# Altium schematic symbol library KP234.SchLib: 1 symbol
Pins are listed as number, name and electrical type; pins without a type are passive.

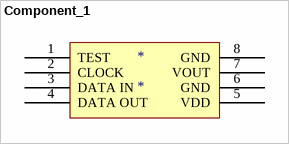
[diagram p0: symbol Component_1]

## Component_1
designator *
footprint KP-234
pins: 1 TEST, 2 CLOCK, 3 DATA IN, 4 DATA OUT, 5 VDD, 6 GND, 7 VOUT, 8 GND